# EAGLE library part TC4427 (library ads)
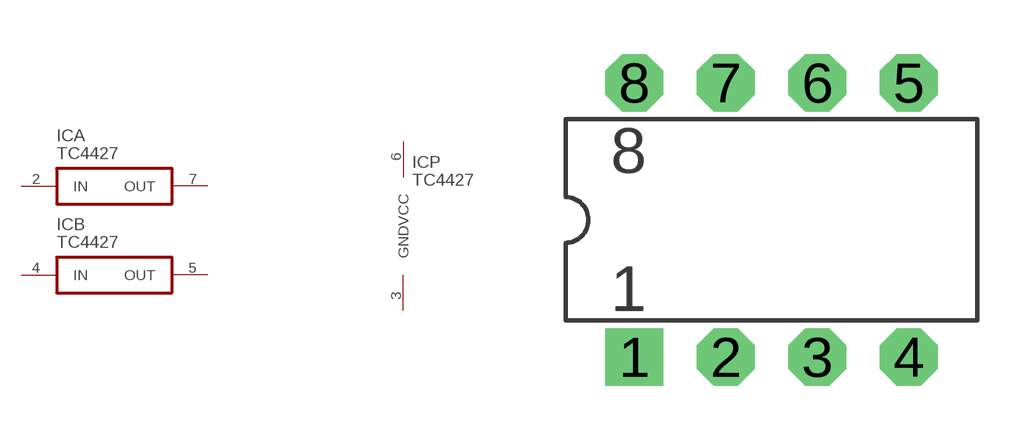
[diagram p23: symbol with the pads of DIP08; footprint DIP08]

Designator prefix IC; gates A=TC4427 B=TC4427 P=POWER2

## TC4427  [DIP08]
2  A:IN  in
3  P:GND  pwr
4  B:IN  in
5  B:OUT  pas
6  P:VCC  pwr
7  A:OUT  pas

## Footprint DIP08 (pad centres in mm)
drill 0.813 pad 1.6 square: 1 1.27,-3.81
drill 0.813 pad 1.6 octagon: 2 3.81,-3.81; 3 6.35,-3.81; 4 8.89,-3.81; 5 8.89,3.81; 6 6.35,3.81; 7 3.81,3.81; 8 1.27,3.81